# Altium schematic symbol library SCH - MCU - STM32 - ST MICROELECTRONICS STM32L422RBTX LQFP64.SchLib: 1 symbol
Pins are listed as number, name and electrical type; pins without a type are passive.

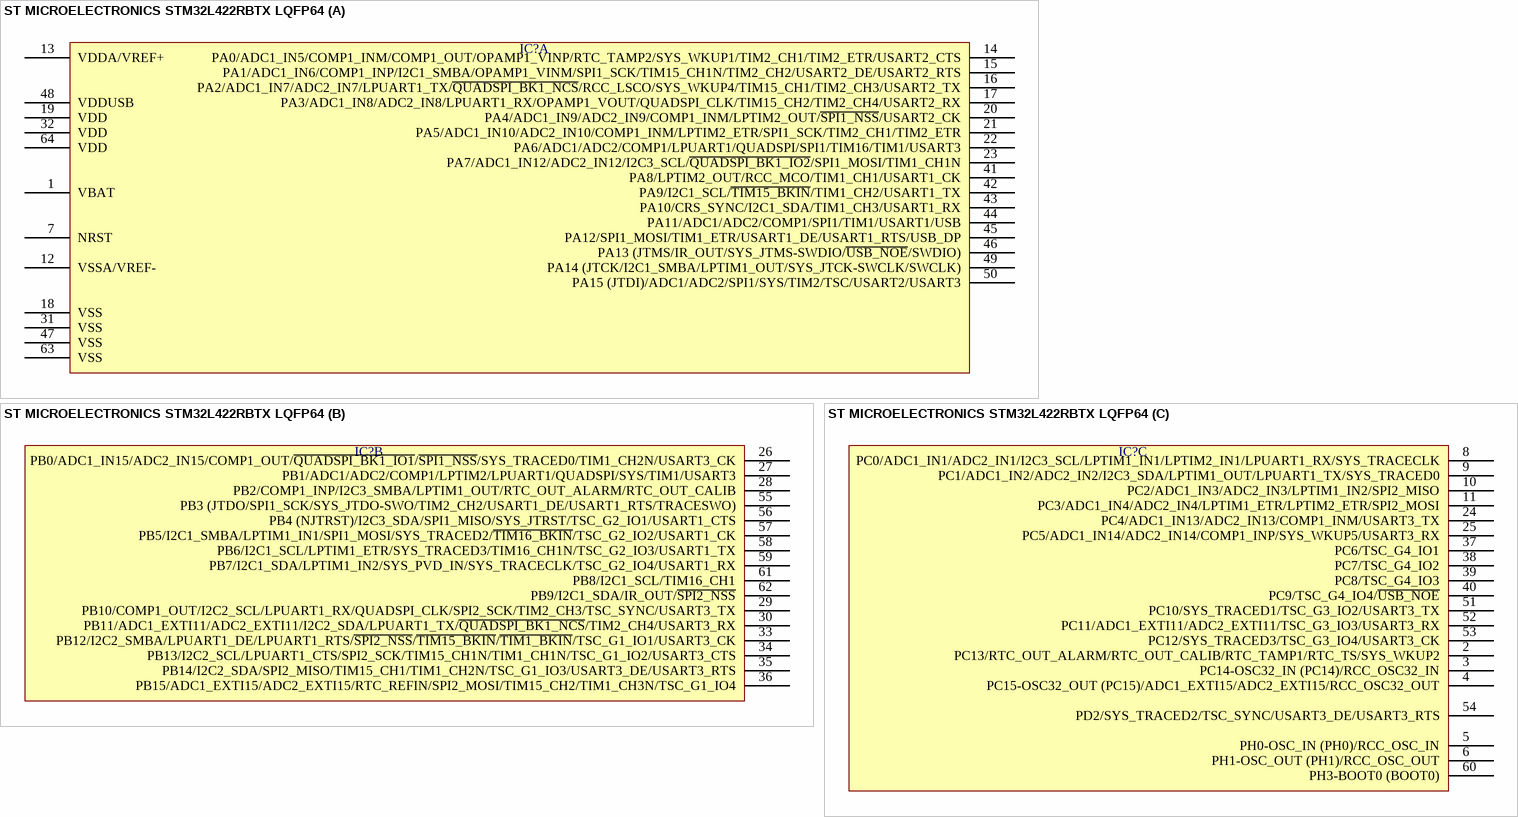
[diagram p0: symbol ST MICROELECTRONICS STM32L422RBTX LQFP64]

## ST MICROELECTRONICS STM32L422RBTX LQFP64
designator IC?  (value not drawn)
part A pins: 1 VBAT, 7 NRST, 12 VSSA/VREF-, 13 VDDA/VREF+, 14 PA0/ADC1_IN5/COMP1_INM/COMP1_OUT/OPAMP1_VINP/RTC_TAMP2/SYS_WKUP1/TIM2_CH1/TIM2_ETR/USART2_CTS, 15 PA1/ADC1_IN6/COMP1_INP/I2C1_SMBA/OPAMP1_VINM/SPI1_SCK/TIM15_CH1N/TIM2_CH2/USART2_DE/USART2_RTS, 16 PA2/ADC1_IN7/ADC2_IN7/LPUART1_TX/~{QUADSPI_BK1_NCS}/RCC_LSCO/SYS_WKUP4/TIM15_CH1/TIM2_CH3/USART2_TX, 17 PA3/ADC1_IN8/ADC2_IN8/LPUART1_RX/OPAMP1_VOUT/QUADSPI_CLK/TIM15_CH2/TIM2_CH4/USART2_RX, 18 VSS, 19 VDD, 20 PA4/ADC1_IN9/ADC2_IN9/COMP1_INM/LPTIM2_OUT/~{SPI1_NSS}/USART2_CK, 21 PA5/ADC1_IN10/ADC2_IN10/COMP1_INM/LPTIM2_ETR/SPI1_SCK/TIM2_CH1/TIM2_ETR, 22 PA6/ADC1/ADC2/COMP1/LPUART1/QUADSPI/SPI1/TIM16/TIM1/USART3, 23 PA7/ADC1_IN12/ADC2_IN12/I2C3_SCL/~{QUADSPI_BK1_IO2}/SPI1_MOSI/TIM1_CH1N, 31 VSS, 32 VDD, 41 PA8/LPTIM2_OUT/RCC_MCO/TIM1_CH1/USART1_CK, 42 PA9/I2C1_SCL/~{TIM15_BKIN}/TIM1_CH2/USART1_TX, 43 PA10/CRS_SYNC/I2C1_SDA/TIM1_CH3/USART1_RX, 44 PA11/ADC1/ADC2/COMP1/SPI1/TIM1/USART1/USB, 45 PA12/SPI1_MOSI/TIM1_ETR/USART1_DE/USART1_RTS/USB_DP, 46 PA13 (JTMS/IR_OUT/SYS_JTMS-SWDIO/~{USB_NOE}/SWDIO), 47 VSS, 48 VDDUSB, 49 PA14 (JTCK/I2C1_SMBA/LPTIM1_OUT/SYS_JTCK-SWCLK/SWCLK), 50 PA15 (JTDI)/ADC1/ADC2/SPI1/SYS/TIM2/TSC/USART2/USART3, 63 VSS, 64 VDD
part B pins: 26 PB0/ADC1_IN15/ADC2_IN15/COMP1_OUT/~{QUADSPI_BK1_IO1}/~{SPI1_NSS}/SYS_TRACED0/TIM1_CH2N/USART3_CK, 27 PB1/ADC1/ADC2/COMP1/LPTIM2/LPUART1/QUADSPI/SYS/TIM1/USART3, 28 PB2/COMP1_INP/I2C3_SMBA/LPTIM1_OUT/RTC_OUT_ALARM/RTC_OUT_CALIB, 29 PB10/COMP1_OUT/I2C2_SCL/LPUART1_RX/QUADSPI_CLK/SPI2_SCK/TIM2_CH3/TSC_SYNC/USART3_TX, 30 PB11/ADC1_EXTI11/ADC2_EXTI11/I2C2_SDA/LPUART1_TX/~{QUADSPI_BK1_NCS}/TIM2_CH4/USART3_RX, 33 PB12/I2C2_SMBA/LPUART1_DE/LPUART1_RTS/~{SPI2_NSS}/~{TIM15_BKIN}/~{TIM1_BKIN}/TSC_G1_IO1/USART3_CK, 34 PB13/I2C2_SCL/LPUART1_CTS/SPI2_SCK/TIM15_CH1N/TIM1_CH1N/TSC_G1_IO2/USART3_CTS, 35 PB14/I2C2_SDA/SPI2_MISO/TIM15_CH1/TIM1_CH2N/TSC_G1_IO3/USART3_DE/USART3_RTS, 36 PB15/ADC1_EXTI15/ADC2_EXTI15/RTC_REFIN/SPI2_MOSI/TIM15_CH2/TIM1_CH3N/TSC_G1_IO4, 55 PB3 (JTDO/SPI1_SCK/SYS_JTDO-SWO/TIM2_CH2/USART1_DE/USART1_RTS/TRACESWO), 56 PB4 (NJTRST)/I2C3_SDA/SPI1_MISO/SYS_JTRST/TSC_G2_IO1/USART1_CTS, 57 PB5/I2C1_SMBA/LPTIM1_IN1/SPI1_MOSI/SYS_TRACED2/~{TIM16_BKIN}/TSC_G2_IO2/USART1_CK, 58 PB6/I2C1_SCL/LPTIM1_ETR/SYS_TRACED3/TIM16_CH1N/TSC_G2_IO3/USART1_TX, 59 PB7/I2C1_SDA/LPTIM1_IN2/SYS_PVD_IN/SYS_TRACECLK/TSC_G2_IO4/USART1_RX, 61 PB8/I2C1_SCL/TIM16_CH1, 62 PB9/I2C1_SDA/IR_OUT/~{SPI2_NSS}
part C pins: 2 PC13/RTC_OUT_ALARM/RTC_OUT_CALIB/RTC_TAMP1/RTC_TS/SYS_WKUP2, 3 PC14-OSC32_IN (PC14)/RCC_OSC32_IN, 4 PC15-OSC32_OUT (PC15)/ADC1_EXTI15/ADC2_EXTI15/RCC_OSC32_OUT, 5 PH0-OSC_IN (PH0)/RCC_OSC_IN, 6 PH1-OSC_OUT (PH1)/RCC_OSC_OUT, 8 PC0/ADC1_IN1/ADC2_IN1/I2C3_SCL/LPTIM1_IN1/LPTIM2_IN1/LPUART1_RX/SYS_TRACECLK, 9 PC1/ADC1_IN2/ADC2_IN2/I2C3_SDA/LPTIM1_OUT/LPUART1_TX/SYS_TRACED0, 10 PC2/ADC1_IN3/ADC2_IN3/LPTIM1_IN2/SPI2_MISO, 11 PC3/ADC1_IN4/ADC2_IN4/LPTIM1_ETR/LPTIM2_ETR/SPI2_MOSI, 24 PC4/ADC1_IN13/ADC2_IN13/COMP1_INM/USART3_TX, 25 PC5/ADC1_IN14/ADC2_IN14/COMP1_INP/SYS_WKUP5/USART3_RX, 37 PC6/TSC_G4_IO1, 38 PC7/TSC_G4_IO2, 39 PC8/TSC_G4_IO3, 40 PC9/TSC_G4_IO4/~{USB_NOE}, 51 PC10/SYS_TRACED1/TSC_G3_IO2/USART3_TX, 52 PC11/ADC1_EXTI11/ADC2_EXTI11/TSC_G3_IO3/USART3_RX, 53 PC12/SYS_TRACED3/TSC_G3_IO4/USART3_CK, 54 PD2/SYS_TRACED2/TSC_SYNC/USART3_DE/USART3_RTS, 60 PH3-BOOT0 (BOOT0)